# EAGLE library part LM358S-13 (library LM358S-13)
Op Amp Dual 100dB 3-32V 1MHz SOIC8 DiodesZetex LM358S-13, Dual Op Amp, 1MHz Push-Pull, 3 32 V, 8-Pin SOP Source: Datasheet <https://componentsearchengine.com/Datasheets/2/LM358S-13.pdf>
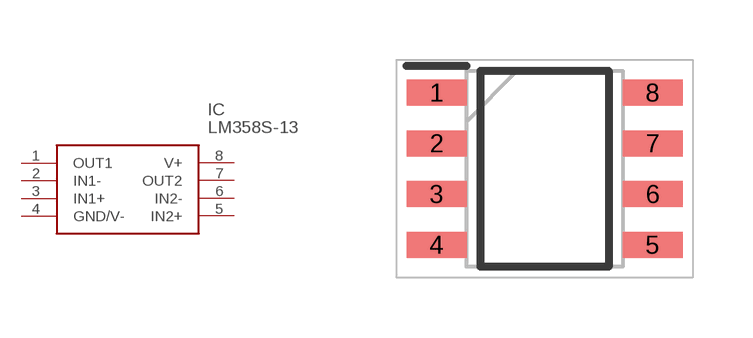
[diagram p0: symbol with the pads of SOIC127P600X175-8N; footprint SOIC127P600X175-8N]

Designator prefix IC

## LM358S-13 (Description: Op Amp Dual 100dB 3-32V 1MHz SOIC8 DiodesZetex LM358S-13, Dual Op Amp, 1MHz Push-Pull, 3 32 V, 8-Pin SOP; Height: 1.75mm; Manufacturer_Name: Diodes Inc.; Manufacturer_Part_Number: LM358S-13; Mouser_Part_Number: 621-LM358S-13; Mouser_Price-Stock: https://www.mouser.co.uk/ProductDetail/Diodes-Incorporated/LM358S-13?qs=FRHfhEBFk1cUgiwjEgUNzQ%3D%3D)  [SOIC127P600X175-8N]
1  OUT1  out
2  IN1-  in
3  IN1+  in
4  GND/V-  pwr
5  IN2+  in
6  IN2-  in
7  OUT2  out
8  V+  pwr

## Footprint SOIC127P600X175-8N (pad centres in mm)
SOP-8L
smd 1.5 x 0.65: 1 -2.7,1.905; 2 -2.7,0.635; 3 -2.7,-0.635; 4 -2.7,-1.905; 5 2.7,-1.905; 6 2.7,-0.635; 7 2.7,0.635; 8 2.7,1.905